# Altium schematic symbol library Custom1.SchLib: 476 symbols (part 4 of 16)
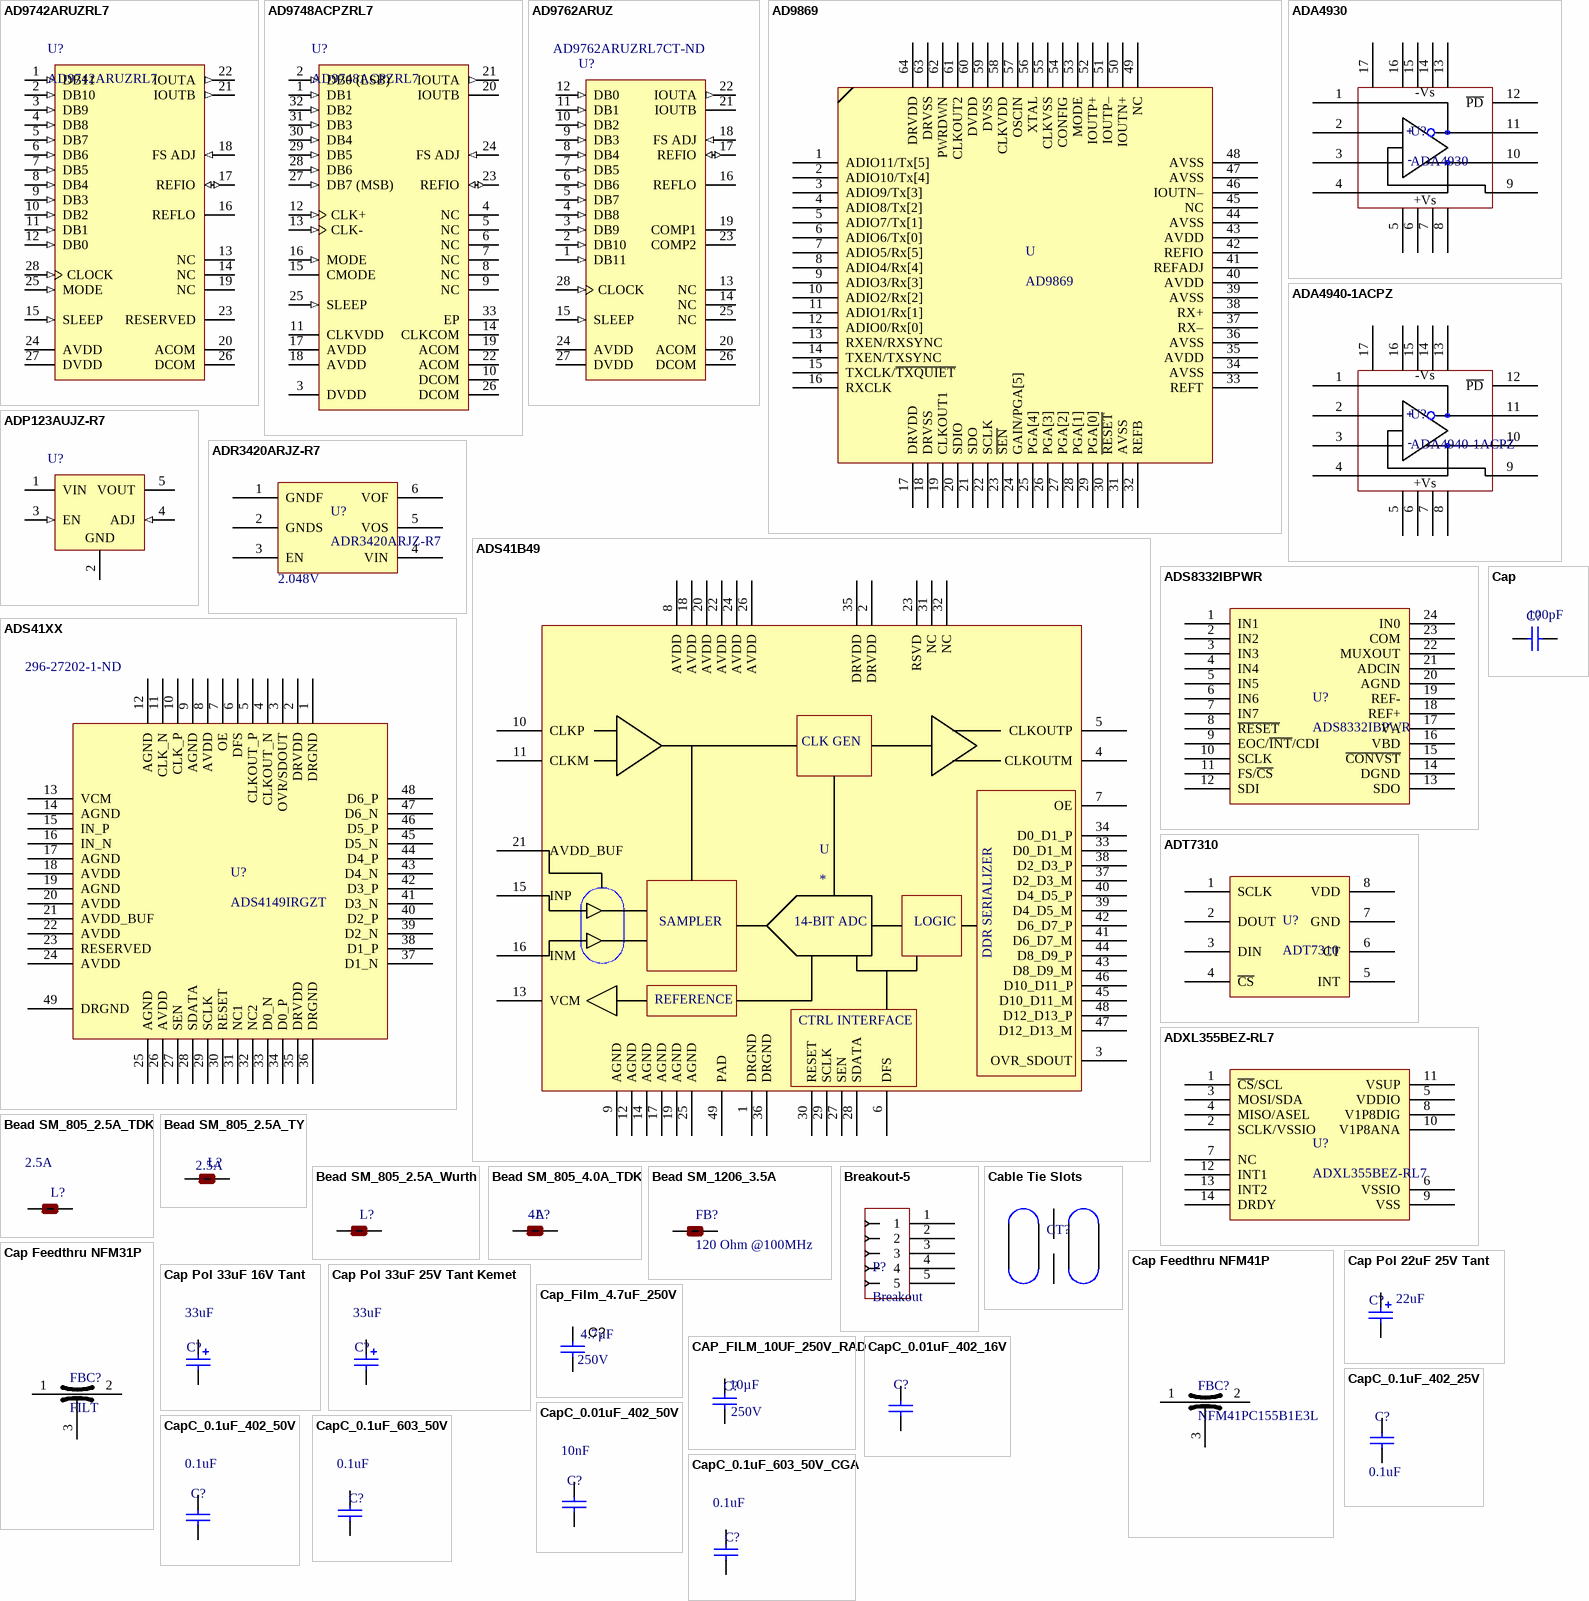
[diagram p28: symbols AD9742ARUZRL7 to CapC_0.1uF_603_50V_CGA]

## Cap Pol 33uF 25V Tant Kemet
designator C?  Capacitance: 33uF  (hidden comment: Cap Pol 33uF 25V Tant Kemet)
33µF Molded Tantalum Polymer Capacitor 25V 2917 (7343 Metric) 40mOhm @ 100kHz; Manufacturer Part Number: T521V336M025ATE040; ESR (Equivalent Series Resistance): 40mR; Tolerance: 20%; ComponentLink1Description: Datasheet; ComponentLink1URL: https://content.kemet.com/datasheets/KEM_T2076_T52X-530.pdf; Supplier 1: Digi-Key; Manufacturer: KEMET; Stock 1: 3766; Pricing 1: 1=2.15000, 10=1.73900, 100=1.32830, 500=1.01200 (USD); RoHS: Yes; Mount: Surface Mount; Case/Package: 2917; Case Code (Metric): 7343; Case Code (Imperial): 2917; Min Operating Temperature: -55°C; Max Operating Temperature: 105°C; Packaging: Cut Tape; Voltage Rating: 25V; Voltage Rating (DC): 25V; Length: 0.287inch; Width: 0.169inch; Height - Seated (Max): 0.079inch; REACH SVHC: No SVHC; ComponentLink2URL: http://www.kemet.com/docfinder?Partnumber=T521&src-supplier=Digi-Key; ComponentLink2Description: http://www.kemet.com/docfinder?Partnumber=T521&src-supplier=Digi-Key; ComponentLink3URL: http://www.farnell.com/datasheets/2032760.pdf?src-supplier=Element14; ComponentLink3Description: http://www.farnell.com/datasheets/2032760.pdf?src-supplier=Element14; Supplier Part Number 1: 399-13115-1-ND
simulation model CAP (Capacitor)
signal-integrity model Cap Pol
footprint TC7343-2917 (Capacitor, SM Tantalum; Body 7.3 x 4.3 mm (LxW typ))
pins: 1, 2
1 alternate drawing of the same symbol

## Cap_Film_4.7uF_250V
designator C?, comment Capacitance: 4.7µF  Voltage Rating - DC: 250V  (hidden comment: CAP FILM 4.7UF 250VDC RADIAL)
Manufacturer: Vishay BC Components; Manufacturer Part Number: BFC237341475; Tolerance: ±10%; Voltage Rating - AC: 160V; Dielectric Material: Polyester, Metallized; Supplier 1: Digi-Key; RoHS: RoHS Compliant; Category: Capacitors; Stock 1: 223; Pricing 1: 1=8.9, 10=7.91, 50=6.9212, 100=6.328, 250=5.73476, 500=5.43812, 1000=5.04263, 2500=4.94375, 5000=4.9042 (USD); Packaging: Bulk; ESR (Equivalent Series Resistance): -; Operating Temperature: -55°C ~ 105°C; Mounting Type: Through Hole; Package / Case: Radial; Size / Dimension: 1.220" L x 0.591" W (31.00mm x 15.00mm); Height - Seated (Max): 1.102" (28.00mm); Termination: PC Pins; Lead Spacing: 1.083" (27.50mm); Applications: General Purpose; Features: -; ComponentLink1URL: http://media.digikey.com/pdf/Data%20Sheets/BC%20Components%20PDFs/MKT373_Series.pdf; ComponentLink1Description: http://media.digikey.com/pdf/Data%20Sheets/BC%20Components%20PDFs/MKT373_Series.pdf; Supplier Part Number 1: BC1787-ND
footprint Capacitor Large Radial
footprint C0805 (Chip Capacitor; Body 2.0 x 1.2 mm (LxW typ))
footprint 0603 (SMT; Body 1.6 x 0.8 mm (LxW typ))
footprint Cap Radial 1.22" x .591"
pins: 1, 2

## CAP_FILM_10UF_250V_RAD
designator C?, comment Capacitance: 10µF  Voltage Rating - DC: 250V  (hidden comment: B32524R3106K)
CAP FILM 10UF 250V RAD; Manufacturer: EPCOS Inc; Tolerance: ±10%; Voltage Rating - AC: 160V; Dielectric Material: Polyester, Polyethylene Terephthalate (PET); Supplier 1: Digi-Key; Manufacturer Part Number: B32524R3106K; RoHS: RoHS Compliant; Category: Capacitors; Stock 1: 2797; Pricing 1: 1=5.27, 10=4.741, 100=3.5819, 500=2.9498, 1000=2.7391, 5000=2.63375, 10000=2.61268 (USD); Packaging: Bulk; ESR (Equivalent Series Resistance): -; Operating Temperature: -55°C ~ 125°C; Mounting Type: Through Hole; Package / Case: Radial; Size / Dimension: 1.240" L x 0.492" W (31.50mm x 12.50mm); Height - Seated (Max): 0.846" (21.50mm); Termination: PC Pins; Lead Spacing: 1.083" (27.50mm); Applications: General Purpose; Features: -; ComponentLink1URL: http://en.tdk.eu/inf/20/20/db/fc_2009/B32520_529.pdf; ComponentLink1Description: http://en.tdk.eu/inf/20/20/db/fc_2009/B32520_529.pdf; Supplier Part Number 1: 495-4799-ND
simulation model CAP (Capacitor)
signal-integrity model Cap
footprint Cap Radial 1.24" x 0.492" x 0.846
pins: 1, 2

## CapC_0.01uF_402_16V
designator C?, comment 0.01uF_402_16V  (value not drawn)
Capacitor; Manufacturer: KEMET; Manufacturer Part Number: C0402C103K4RACAUTO; Dielectric Material: Ceramic; Capacitance: 10nF; Tolerance: 10%; Voltage Rating: 16V; Dielectric: X7R; Supplier 1: Digi-Key; Stock 1: 101370; Pricing 1: 1 = 0.11000, 10 = 0.08000, 100 = 0.03560, 500 = 0.02544, 1000 = 0.01999, 2500 = 0.01817, 5000 = 0.01672 (USD); RoHS: Yes; Mount: Surface Mount; Case/Package: 0402; Case Code (Metric): 1005; Case Code (Imperial): 0402; Contact Plating: Tin; Min Operating Temperature: -55°C; Max Operating Temperature: 125°C; Package Quantity: 1; Packaging: Tape and Reel; Voltage Rating (DC): 16V; Length: 1mm; Height: 0.5mm; Width: 0.02inch; Thickness: 0.022inch; Depth: 0.5mm; Ratings: AEC-Q200; Radiation Hardening: No; REACH SVHC: No SVHC; Supplier Part Number 1: 399-6825-1-ND; ComponentLink1Description: Supplier Link; ComponentLink1URL: https://www.digikey.com/product-detail/en/kemet/C0402C103K4RACAUTO/399-6825-1-ND/3314340; ComponentLink2Description: Datasheet; ComponentLink2URL: https://api.kemet.com/component-edge/download/specsheet/C0402C103K4RACAUTO.pdf
footprint CAPC_0402 (Chip Capacitor, Body 1.0x0.5mm, IPC Medium Density)
pins: 1, 2

## CapC_0.1uF_402_25V
designator C?, comment value 0.1uF  (hidden comment: 0.1uF_402_25V)
Capacitor; Manufacturer: TDK Corporation; Manufacturer Part Number: CGJ2B3X7R1E104K050BB; Capacitance: 0.1µF; Voltage - Rated: 25V; Tolerance: ±10%; Temperature Coefficient: X7R; Supplier 1: Digi-Key; Supplier Part Number 1: 445-13302-1-ND; RoHS: RoHS Compliant; Category: Capacitors; Pricing: 1=0.2, 10=0.136, 100=0.0693, 250=0.05612, 500=0.0495, 1000=0.04208, 5000=0.03548 (USD); Packaging: Cut Tape (CT); Mounting Type: Surface Mount, MLCC; Operating Temperature: -55°C ~ 125°C; Applications: High Reliability; Ratings: -; Package / Case: 0402 (1005 Metric); Size / Dimension: 0.039" L x 0.020" W (1.00mm x 0.50mm); Height - Seated (Max): -; Thickness (Max): 0.020" (0.50mm); Lead Spacing: -; Features: -; Lead Style: -; ComponentLink1URL: https://product.tdk.com/info/en/documents/chara_sheet/CGJ2B3X7R1E104K050BB.pdf; ComponentLink1Description: Data Sheet; Stock: 10000
footprint CAPC_0402 (Chip Capacitor, Body 1.0x0.5mm, IPC Medium Density)
footprint CAPC_0402 (Chip Capacitor, Body 1.0x0.5mm, IPC Medium Density)
pins: 1, 2

## CapC_0.01uF_402_50V
designator C?, comment Capacitance: 10nF  (hidden comment: 0.01uF_402_50V)
10000pF ±10% 50V Ceramic Capacitor X7R 0402 (1005 Metric); Manufacturer: Murata; Manufacturer Part Number: GCM155R71H103KA55D; ComponentLink1Description: Supplier Link; ComponentLink1URL: https://www.digikey.com/products/en?keywords=490-4762-1-ND; ComponentLink2Description: Datasheet; ComponentLink2URL: https://psearch.en.murata.com/capacitor/product/GCM155R71H103KA55%23.pdf; Supplier 1: Digi-Key; Stock 1: 23869696; Pricing 1: 1 = 0.10000, 10 = 0.04200, 100 = 0.01880, 500 = 0.01344, 1000 = 0.01056, 2500 = 0.00960, 5000 = 0.00883 (USD); RoHS: Yes; Mount: Surface Mount; Case/Package: 0402; Case Code (Imperial): 0402; Case Code (Metric): 1005; Min Operating Temperature: -55°C; Max Operating Temperature: 125°C; Tolerance: 10%; Voltage Rating: 50V; Packaging: Tape and Reel; Package Quantity: 1; Dielectric: X7R; Termination: SMD/SMT; Voltage: 50V; Voltage Rating (DC): 50V; Length: 1mm; Height: 0.5mm; Width: 0.02inch; Thickness: 0.022inch; Depth: 0.5mm; Ratings: AEC-Q200; Radiation Hardening: No; REACH SVHC: No SVHC; Lead Free: Lead Free; ComponentLink3URL: https://datasheet.ciiva.com/130/product-130683.pdf?src-supplier=Digi-Key; ComponentLink3Description: https://datasheet.ciiva.com/130/product-130683.pdf?src-supplier=Digi-Key; ComponentLink4URL: https://datasheet.ciiva.com/130/product-130684.pdf?src-supplier=Digi-Key; ComponentLink4Description: https://datasheet.ciiva.com/130/product-130684.pdf?src-supplier=Digi-Key; ComponentLink5URL: https://datasheet.ciiva.com/16199/product-16199584.pdf?src-supplier=Future+Electronics; ComponentLink5Description: https://datasheet.ciiva.com/16199/product-16199584.pdf?src-supplier=Future+Electronics; ComponentLink6URL: https://datasheet.ciiva.com/18100/getdatasheetpartid-27433-18100656.pdf?src-supplier=Verical; ComponentLink6Description: https://datasheet.ciiva.com/18100/getdatasheetpartid-27433-18100656.pdf?src-supplier=Verical; ComponentLink7URL: https://datasheet.ciiva.com/130/product-130682.pdf?src-supplier=Digi-Key; ComponentLink7Description: https://datasheet.ciiva.com/130/product-130682.pdf?src-supplier=Digi-Key; ComponentLink8URL: https://datasheet.ciiva.com/11787/0900766b80ef92d0-11787082.pdf?src-supplier=RSComponents; ComponentLink8Description: https://datasheet.ciiva.com/11787/0900766b80ef92d0-11787082.pdf?src-supplier=RSComponents; ComponentLink9URL: https://datasheet.ciiva.com/2989/product-2989235.pdf?src-supplier=Avnet; ComponentLink9Description: https://datasheet.ciiva.com/2989/product-2989235.pdf?src-supplier=Avnet; ComponentLink10URL: https://datasheet.ciiva.com/16624/product-16624550.pdf?src-supplier=Avnet+Europe; ComponentLink10Description: https://datasheet.ciiva.com/16624/product-16624550.pdf?src-supplier=Avnet+Europe; Supplier Part Number 1: 490-4762-1-ND
footprint CAPC_0402 (Chip Capacitor, Body 1.0x0.5mm, IPC Medium Density)
pins: 1, 2

## CapC_0.1uF_402_50V
designator C?, comment Capacitance: 0.1uF  (hidden comment: 0.1uF_402_50V)
0.1µF ±10% 50V Ceramic Capacitor X7R 0402 (1005 Metric); Manufacturer: Murata; Manufacturer Part Number: GCM155R71H104KE02J; ComponentLink1URL: https://search.murata.co.jp/Ceramy/image/img/A01X/G101/ENG/GCM155R71H104KE02-01.pdf; ComponentLink1Description: Data Sheet; ComponentLink2Description: Supplier Link; ComponentLink2URL: https://www.digikey.com/products/en?keywords=490-14514-1-ND; ComponentLink3Description: Catalog and applications; ComponentLink3URL: https://www.murata.com/~/media/webrenewal/support/library/catalog/products/capacitor/mlcc/c03e.ashx?la=en-us; Supplier 1: Digi-Key; Stock 1: 378282; Pricing 1: 1=0.10000, 10=0.06100, 100=0.02730, 500=0.01952, 1000=0.01533, 2500=0.01394, 5000=0.01282 (USD); RoHS: Yes; Mount: Surface Mount; Case/Package: 0402; Weight: 0.000212oz; Case Code (Imperial): 0402; Case Code (Metric): 1005; Min Operating Temperature: -55°C; Max Operating Temperature: 125°C; Packaging: Tape and Reel; Voltage Rating: 50V; Tolerance: 10%; Dielectric: X7R; Termination: SMD/SMT; Voltage Rating (DC): 50V; Package Quantity: 50000; Length: 0.039inch; Height: 0.5mm; Width: 0.02inch; Thickness: 0.022inch; Ratings: AEC-Q200; Supplier Part Number 1: 490-14514-1-ND
footprint CAPC_0402 (Chip Capacitor, Body 1.0x0.5mm, IPC Medium Density)
footprint CAPC_0402 (Chip Capacitor, Body 1.0x0.5mm, IPC Medium Density)
pins: 1, 2

## CapC_0.1uF_603_50V
designator C?, comment Capacitance: 0.1uF  (hidden comment: 0.1uF_603_50V)
0.1µF ±10% 50V Ceramic Capacitor X7R 0603 (1608 Metric); Manufacturer: TDK; Manufacturer Part Number: CGJ3E2X7R1H104K080AA; Ratings: COTS; ComponentLink1Description: Datasheet; ComponentLink1URL: https://product.tdk.com/info/en/catalog/datasheets/mlcc_highreliability_general_en.pdf; ComponentLink2Description: Supplier Link; ComponentLink2URL: https://www.digikey.com/products/en?keywords=445-8122-1-ND; Supplier 1: Digi-Key; Stock 1: 697211; Pricing 1: 1 = 0.22000, 10 = 0.15300, 100 = 0.07740, 500 = 0.05294, 1000 = 0.04683 (USD); RoHS: Yes; Mount: Surface Mount; Case/Package: 0603; Weight: 7.1E-05oz; Case Code (Imperial): 0603; Case Code (Metric): 1608; Min Operating Temperature: -55°C; Max Operating Temperature: 125°C; Tolerance: 10%; Voltage Rating: 50V; Voltage Rating (DC): 50V; Packaging: Tape and Reel; Package Quantity: 1; Dielectric: X7R; Termination: SMD/SMT; Composition: Ceramic; Length: 1.6mm; Height: 0.8mm; Width: 0.8mm; Thickness: 0.035inch; Depth: 0.8mm; Radiation Hardening: No; Lead Free: Lead Free; Supplier Part Number 1: 445-8122-1-ND
simulation model CAP (Capacitor)
signal-integrity model Cap
footprint CAPC_0603 (Chip Capacitor, Body 1.6x0.8mm, IPC Medium Density)
pins: 1, 2

## CapC_0.1uF_603_50V_CGA
designator C?, comment Capacitance: 0.1uF  (hidden comment: 0.1uF_603_50V)
0.1µF ±10% 50V Ceramic Capacitor X7R 0603 (1608 Metric); Manufacturer: TDK; Manufacturer Part Number: CGA3E2X7R1H104K080AA; ComponentLink1Description: Datasheet; ComponentLink1URL: https://product.tdk.com/info/en/catalog/datasheets/mlcc_highreliability_general_en.pdf; ComponentLink2Description: Supplier Link; ComponentLink2URL: https://www.digikey.com/products/en?keywords=445-8122-1-ND; Supplier 1: Digi-Key; Stock 1: 11656700; Pricing 1: 1 = 0.10000, 10 = 0.07500, 100 = 0.03350, 500 = 0.02390, 1000 = 0.01878 (USD); RoHS: Yes; Mount: Surface Mount; Case/Package: 0603; Weight: 7.1E-05oz; Case Code (Imperial): 0603; Case Code (Metric): 1608; Min Operating Temperature: -55°C; Max Operating Temperature: 125°C; Voltage Rating (DC): 50V; Tolerance: 10%; Packaging: Tape and Reel; Package Quantity: 1; Voltage Rating: 50V; Dielectric: X7R; Termination: SMD/SMT; Composition: Ceramic; Voltage: 50V; Length: 1.6mm; Height: 0.8mm; Width: 0.8mm; Thickness: 0.035inch; Depth: 0.8mm; Ratings: AEC-Q200; Radiation Hardening: No; REACH SVHC: No SVHC; Lead Free: Lead Free; ComponentLink3URL: https://datasheet.ciiva.com/24216/cga3e2x7r1h104k080aa-266291-24216208.pdf?src-supplier=Mouser; ComponentLink3Description: https://datasheet.ciiva.com/24216/cga3e2x7r1h104k080aa-266291-24216208.pdf?src-supplier=Mouser; ComponentLink4URL: https://datasheet.ciiva.com/15192/getdatasheetpartid-715867-15192412.pdf?src-supplier=Verical; ComponentLink4Description: https://datasheet.ciiva.com/15192/getdatasheetpartid-715867-15192412.pdf?src-supplier=Verical; ComponentLink5URL: https://datasheet.ciiva.com/16500/mlccspec-automotive-general-midvoltage-en-16500693.pdf?src-supplier=Future+Electronics; ComponentLink5Description: https://datasheet.ciiva.com/16500/mlccspec-automotive-general-midvoltage-en-16500693.pdf?src-supplier=Future+Electronics; ComponentLink6URL: https://datasheet.ciiva.com/22725/1735392-22725642.pdf?src-supplier=Element14; ComponentLink6Description: https://datasheet.ciiva.com/22725/1735392-22725642.pdf?src-supplier=Element14; ComponentLink7URL: https://datasheet.ciiva.com/23803/1936565-23803084.pdf?src-supplier=Newark; ComponentLink7Description: https://datasheet.ciiva.com/23803/1936565-23803084.pdf?src-supplier=Newark; ComponentLink8URL: https://datasheet.ciiva.com/46385/1735392-46385708.pdf?src-supplier=Element14; ComponentLink8Description: https://datasheet.ciiva.com/46385/1735392-46385708.pdf?src-supplier=Element14; Supplier Part Number 1: 445-5666-1-ND
simulation model CAP (Capacitor)
signal-integrity model Cap
footprint CAPC_0603 (Chip Capacitor, Body 1.6x0.8mm, IPC Medium Density)
pins: 1, 2

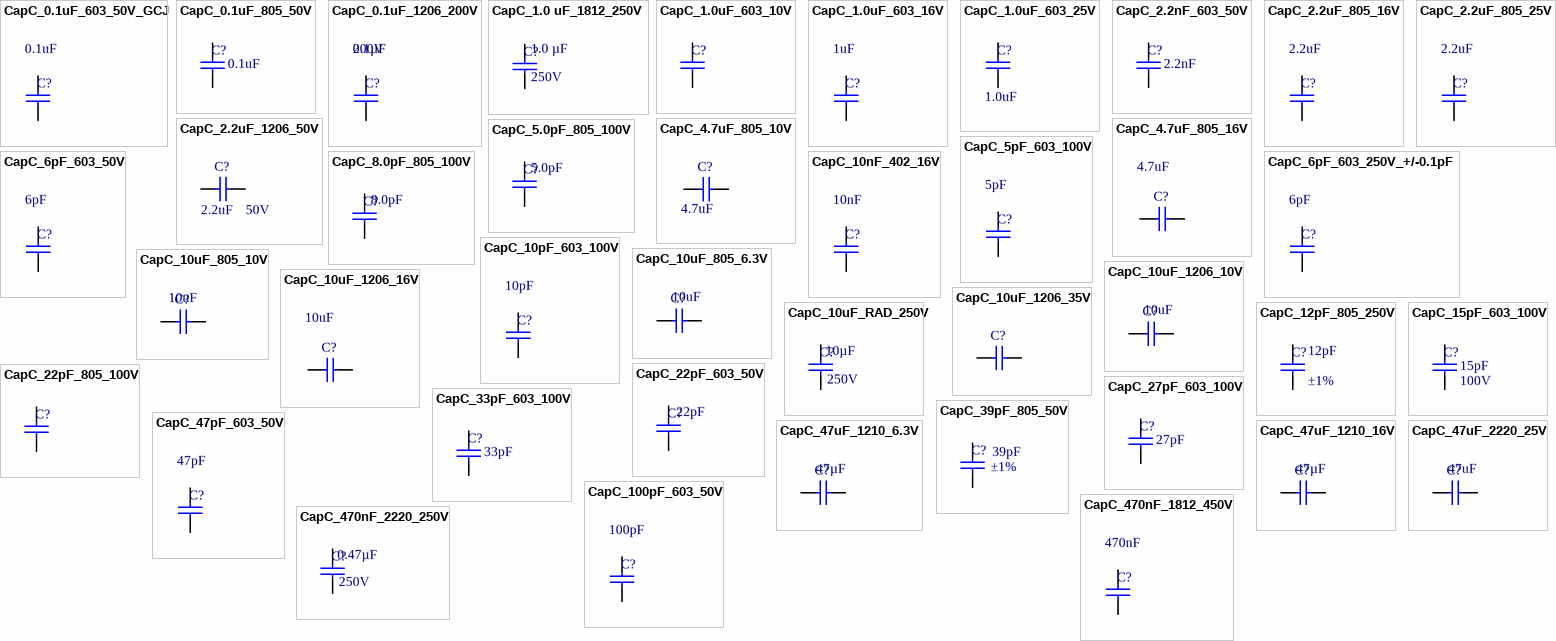
[diagram p11: symbols CapC_0.1uF_603_50V_GCJ to CapC_470nF_2220_250V]

## CapC_0.1uF_603_50V_GCJ
designator C?, comment Capacitance: 0.1uF  (hidden comment: 0.1uF_603_50V)
0.1µF ±10% 50V Ceramic Capacitor X7R 0603 (1608 Metric); Manufacturer: Murata; Manufacturer Part Number: GCJ188R71H104KA12D; ComponentLink1Description: Datasheet; ComponentLink1URL: https://psearch.en.murata.com/capacitor/product/GCJ188R71H104KA12%23.pdf; ComponentLink2Description: Supplier Link; ComponentLink2URL: https://www.digikey.com/products/en?keywords=490-5798-1-ND; Supplier 1: Digi-Key; Stock 1: 2321609; Pricing 1: 1=0.28000, 10=0.19200, 100=0.10890, 500=0.07686, 1000=0.06725 (USD); RoHS: Yes; Mount: Surface Mount; Case/Package: 0603; Case Code (Metric): 1608; Case Code (Imperial): 0603; Min Operating Temperature: -55°C; Max Operating Temperature: 125°C; Tolerance: 10%; Dielectric: X7R; Package Quantity: 1; Voltage Rating: 50V; Packaging: Tape and Reel; Voltage Rating (DC): 50V; Termination: SMD/SMT; Features: Soft Termination; Length: 1.6mm; Height: 0.8mm; Width: 0.031inch; Thickness: 0.035inch; Depth: 0.8mm; Ratings: AEC-Q200; Radiation Hardening: No; Lead Free: Lead Free; Supplier Part Number 1: 490-5798-1-ND
simulation model CAP (Capacitor)
signal-integrity model Cap
footprint CAPC_0603 (Chip Capacitor, Body 1.6x0.8mm, IPC Medium Density)
pins: 1, 2

## CapC_0.1uF_805_50V
designator C?, comment value 0.1uF  (hidden comment: 0.1uF_805_50V)
Capacitor; Manufacturer: Kemet; Manufacturer Part Number: C0805C104M5RACAUTO; Voltage - Rated: 50V; Capacitance: 0.1µF; Tolerance: ±20%; Temperature Coefficient: X7R; Supplier 1: Digi-Key; RoHS: RoHS Compliant; Category: Capacitors; Stock 1: 3931; Pricing 1: 1=0.13, 10=0.092, 50=0.053, 100=0.0437, 250=0.0368, 500=0.03082, 1000=0.0253 (USD); Packaging: Cut Tape (CT); Mounting Type: Surface Mount, MLCC; Operating Temperature: -55°C ~ 125°C; Applications: Automotive; Ratings: AEC-Q200; Package / Case: 0805 (2012 Metric); Size / Dimension: 0.079" L x 0.049" W (2.00mm x 1.25mm); Height - Seated (Max): -; Thickness (Max): 0.035" (0.88mm); Lead Spacing: -; Features: -; Lead Style: -; ComponentLink1URL: http://www.kemet.com/docfinder?Partnumber=C0805C104M5RACAUTO; ComponentLink1Description: http://www.kemet.com/docfinder?Partnumber=C0805C104M5RACAUTO; Supplier Part Number 1: 399-12977-1-ND
simulation model CAP (Capacitor)
signal-integrity model Cap
footprint CAPC_0805 (Chip Capacitor, Body 2.0x1.3mm, IPC Medium Density)
pins: 1, 2

## CapC_0.1uF_1206_200V
designator C?, comment Capacitance: 0.1µF  Voltage - Rated: 200V  (hidden comment: 0.1uF_1206_200V)
Capacitor; Manufacturer: TDK Corporation; Manufacturer Part Number: CGJ5L3X7R2D104K160AA; Tolerance: ±10%; Temperature Coefficient: X7R; Ratings: COTS; Supplier 1: Digi-Key; RoHS: RoHS Compliant; Category: Capacitors; Stock 1: 5456; Pricing 1: 1=1.09, 10=0.91, 100=0.5811, 250=0.48424, 500=0.43582, 1000=0.39709 (USD); Packaging: Cut Tape (CT); Mounting Type: Surface Mount, MLCC; Operating Temperature: -55°C ~ 125°C; Applications: High Reliability; Package / Case: 1206 (3216 Metric); Size / Dimension: 0.126" L x 0.063" W (3.20mm x 1.60mm); Height - Seated (Max): -; Thickness (Max): 0.063" (1.60mm); Lead Spacing: -; Features: -; Lead Style: -; ComponentLink1URL: http://product.tdk.com/capacitor/mlcc/en/documents/mlcc_highreliability_midvoltage_en.pdf; ComponentLink1Description: http://product.tdk.com/capacitor/mlcc/en/documents/mlcc_highreliability_midvoltage_en.pdf; Supplier Part Number 1: 445-9244-1-ND
simulation model CAP (Capacitor)
signal-integrity model Cap
footprint 1206 (Chip Capacitor; Body 3.2 x 1.6 mm (LxW typ))
pins: 1, 2

## CapC_1.0 uF_1812_250V
designator C?, comment Capacitance: 1.0 µF  Voltage - Rated: 250V  (hidden comment: 1uF_1812_250V)
Capacitor; Manufacturer: TDK Corporation; Manufacturer Part Number: CGA8P3X7T2E105K250KE; Tolerance: ±10%; Temperature Coefficient: X7T; Supplier 1: Digi-Key; RoHS: RoHS Compliant; Category: Capacitors; Stock 1: 1936; Pricing 1: 1=2.15, 10=1.763, 100=1.247, 250=1.032 (USD); Packaging: Cut Tape (CT); Mounting Type: Surface Mount, MLCC; Operating Temperature: -55°C ~ 125°C; Applications: Automotive, Boardflex Sensitive; Ratings: AEC-Q200; Package / Case: 1812 (4532 Metric); Size / Dimension: 0.177" L x 0.126" W (4.50mm x 3.20mm); Height - Seated (Max): -; Thickness (Max): 0.110" (2.80mm); Lead Spacing: -; Features: Soft Termination; Lead Style: -; ComponentLink1URL: https://product.tdk.com/info/en/catalog/datasheets/mlcc_automotive_soft_en.pdf; ComponentLink1Description: https://product.tdk.com/info/en/catalog/datasheets/mlcc_automotive_soft_en.pdf; Supplier Part Number 1: 445-8771-1-ND
simulation model CAP (Capacitor)
signal-integrity model Cap
footprint 1812 (Chip Capacitor; Body 4.5 x 3.2 mm (LxW typ))
pins: 1, 2

## CapC_1.0uF_603_10V
designator C?, comment 1.0uF_603_10V  (value not drawn)
Capacitor; Manufacturer: Samsung; Manufacturer Part Number: CL10B105KA8VPNC; Capacitance: 1uF; Voltage Rating: 25V; Tolerance: 10%; Supplier 1: Digi-Key; Stock 1: 580009; Pricing 1: 1=0.24000, 10=0.16400, 100=0.08300, 500=0.05676, 1000=0.05021 (USD); RoHS: Yes; Mount: Surface Mount; Case/Package: 0603; Case Code (Metric): 1608; Case Code (Imperial): 0603; Min Operating Temperature: -55°C; Max Operating Temperature: 125°C; Packaging: Tape and Reel; Features: Soft Termination; Length: 0.063inch; Width: 0.031inch; Thickness: 0.035inch; Ratings: AEC-Q200; Supplier Part Number 1: 1276-6617-1-ND
simulation model CAP (Capacitor)
signal-integrity model Cap
footprint CAPC_0603 (Chip Capacitor, Body 1.6x0.8mm, IPC Medium Density)
pins: 1, 2

## CapC_1.0uF_603_16V
designator C?, comment Capacitance: 1uF  (hidden comment: 1.0uF_603_16V)
1µF ±10% 16V Ceramic Capacitor X7R 0603 (1608 Metric); Manufacturer: Samsung; Manufacturer Part Number: CL10B105KO8VPNC; Supplier 1: Digi-Key; Stock 1: 2457150; Pricing 1: 1 = 0.19000, 10 = 0.13500, 100 = 0.06370, 500 = 0.04466, 1000 = 0.03697 (USD); RoHS: Yes; Mount: Surface Mount; Case/Package: 0603; Case Code (Metric): 1608; Case Code (Imperial): 0603; Min Operating Temperature: -55°C; Max Operating Temperature: 125°C; Tolerance: 10%; Packaging: Tape and Reel; Dielectric: X7R; Voltage Rating: 16V; Features: Soft Termination; Length: 0.063inch; Width: 0.031inch; Thickness: 0.035inch; Depth: 0.8mm; Ratings: AEC-Q200; Lead Free: Lead Free; Supplier Part Number 1: 1276-6613-1-ND; ComponentLink1Description: Supplier Link; ComponentLink1URL: https://www.digikey.com/products/en?keywords=1276-6613-1-ND; ComponentLink2Description: Datasheet; ComponentLink2URL: http://www.samsungsem.com/kr/support/product-search/mlcc/CL10B105KO8VPNC.jsp
simulation model CAP (Capacitor)
signal-integrity model Cap
footprint CAPC_0603 (Chip Capacitor, Body 1.6x0.8mm, IPC Medium Density)
pins: 1, 2

## CapC_1.0uF_603_25V
designator C?, comment Capacitance: 1.0uF  (hidden comment: 1.0uF_603_25V)
1µF ±10% 25V Ceramic Capacitor X7R 0603 (1608 Metric); Manufacturer: Murata; Manufacturer Part Number: GCJ188R71E105KA01D; Supplier 1: Digi-Key; Stock 1: 166271; Pricing 1: 1=0.28000, 10=0.19400, 100=0.11020, 500=0.07780, 1000=0.06807 (USD); RoHS: No; Case/Package: 0603; Lead Free: Lead Free; Supplier Part Number 1: 490-14409-1-ND; ComponentLink1Description: Supplier Link; ComponentLink1URL: https://www.digikey.com/products/en?keywords=490-14409-1-ND; ComponentLink2Description: Datasheet; ComponentLink2URL: https://search.murata.co.jp/Ceramy/image/img/A01X/G101/ENG/GCJ188R71E105KA01-01.pdf; ComponentLink3Description: Catalog; ComponentLink3URL: https://www.murata.com/~/media/webrenewal/support/library/catalog/products/capacitor/mlcc/c03e.ashx?la=en-us
simulation model CAP (Capacitor)
signal-integrity model Cap
footprint CAPC_0603 (Chip Capacitor, Body 1.6x0.8mm, IPC Medium Density)
pins: 1, 2

## CapC_2.2nF_603_50V
designator C?, comment value 2.2nF  (hidden comment: 2.2nF_603_50V)
Capacitor; Manufacturer: Murata Electronics North America; Manufacturer Part Number: GRM188R71H222KA01D; Voltage - Rated: 50V; Capacitance: 2200pF; Tolerance: ±10%; Temperature Coefficient: X7R; Supplier 1: Digi-Key; RoHS: RoHS Compliant; Category: Capacitors; Stock 1: 170713; Pricing 1: 1=0.1, 10=0.036, 50=0.0192, 100=0.0163, 250=0.01336, 500=0.01142, 1000=0.00873 (USD); Packaging: Cut Tape (CT); Mounting Type: Surface Mount, MLCC; Operating Temperature: -55°C ~ 125°C; Applications: General Purpose; Ratings: -; Package / Case: 0603 (1608 Metric); Size / Dimension: 0.063" L x 0.031" W (1.60mm x 0.80mm); Height - Seated (Max): -; Thickness (Max): 0.035" (0.90mm); Lead Spacing: -; Features: -; Lead Style: -; ComponentLink1URL: http://www.murata.com/~/media/webrenewal/support/library/catalog/products/capacitor/mlcc/c02e.ashx; ComponentLink1Description: http://www.murata.com/~/media/webrenewal/support/library/catalog/products/capacitor/mlcc/c02e.ashx; Supplier Part Number 1: 490-1500-1-ND
simulation model CAP (Capacitor)
signal-integrity model Cap
footprint CAPC_0603 (Chip Capacitor, Body 1.6x0.8mm, IPC Medium Density)
pins: 1, 2

## CapC_2.2uF_805_16V
designator C?, comment Capacitance: 2.2uF  (hidden comment: 2.2uF_805_16V)
CAP CER 2.2UF 16V X7R 0805; Manufacturer: Murata; Manufacturer Part Number: GCJ21BR71C225KA13L; Tolerance: 10%; ComponentLink1Description: Supplier Link; ComponentLink1URL: https://www.digikey.com/products/en?keywords=490-5801-1-ND; ComponentLink2Description: Datasheet; ComponentLink2URL: https://psearch.en.murata.com/capacitor/product/GCJ21BR71C225KA13%23.pdf; Supplier 1: Digi-Key; Stock 1: 18374; Pricing 1: 1 = 0.52000, 10 = 0.35900, 100 = 0.21520, 500 = 0.16138, 1000 = 0.13628 (USD); RoHS: Yes; Mount: Surface Mount; Case/Package: 0805; Case Code (Metric): 2012; Case Code (Imperial): 0805; Min Operating Temperature: -55°C; Max Operating Temperature: 125°C; Packaging: Tape and Reel; Package Quantity: 1; Voltage Rating: 16V; Dielectric: X7R; Termination: SMD/SMT; Voltage Rating (DC): 16V; Features: Soft Termination; Length: 2mm; Height: 1.25mm; Width: 0.049inch; Thickness: 0.057inch; Depth: 1.25mm; Ratings: AEC-Q200; Radiation Hardening: No; Lead Free: Lead Free; ComponentLink3URL: https://datasheet.ciiva.com/172/product-172726.pdf?src-supplier=Digi-Key; ComponentLink3Description: https://datasheet.ciiva.com/172/product-172726.pdf?src-supplier=Digi-Key; ComponentLink4URL: https://datasheet.ciiva.com/172/s0717e-172727.pdf?src-supplier=Digi-Key; ComponentLink4Description: https://datasheet.ciiva.com/172/s0717e-172727.pdf?src-supplier=Digi-Key; ComponentLink5URL: https://datasheet.ciiva.com/172/s0717e-172728.pdf?src-supplier=Digi-Key; ComponentLink5Description: https://datasheet.ciiva.com/172/s0717e-172728.pdf?src-supplier=Digi-Key; Supplier Part Number 1: 490-5801-1-ND
simulation model CAP (Capacitor)
signal-integrity model Cap
footprint CAPC_0805 (Chip Capacitor, Body 2.0x1.3mm, IPC Medium Density)
pins: 1, 2

## CapC_2.2uF_805_25V
designator C?, comment Capacitance: 2.2uF  (hidden comment: 2.2uF_805_25V)
CAP CER 2.2UF 25V X7R 0805; Manufacturer: Samsung; Manufacturer Part Number: CL21B225KAFVPNE; Tolerance: 10%; ComponentLink1Description: Supplier Link; ComponentLink1URL: https://www.digikey.com/products/en?keywords=1276-6655-1-ND; ComponentLink2Description: Datasheet; ComponentLink2URL: http://www.samsungsem.com/kr/support/library/product-catalog/__icsFiles/afieldfile/2018/11/28/MLCC.pdf; Supplier 1: Digi-Key; Stock 1: 2260; Pricing 1: 1=0.28000, 10=0.19000, 100=0.10750, 500=0.07586, 1000=0.06638 (USD); RoHS: Yes; Mount: Surface Mount; Case/Package: 0805; Case Code (Metric): 2012; Case Code (Imperial): 0805; Min Operating Temperature: -55°C; Max Operating Temperature: 125°C; Packaging: Tape and Reel; Voltage Rating: 25V; Features: Soft Termination; Length: 0.079inch; Width: 0.049inch; Thickness: 0.053inch; Ratings: AEC-Q200; Supplier Part Number 1: 1276-6655-1-ND
simulation model CAP (Capacitor)
signal-integrity model Cap
footprint CAPC_0805 (Chip Capacitor, Body 2.0x1.3mm, IPC Medium Density)
pins: 1, 2

## CapC_2.2uF_1206_50V
designator C?, comment value 2.2uF  Voltage - Rated: 50V  (hidden comment: 2.2uF_1206_50V)
Capacitor; Manufacturer: Kemet; Manufacturer Part Number: C1206X225K5RACAUTO; Capacitance: 2.2µF; Tolerance: ±10%; Temperature Coefficient: X7R; Supplier 1: Digi-Key; RoHS: RoHS Compliant; Category: Capacitors; Stock 1: 1738; Pricing 1: 1=1.15, 10=0.964, 50=0.779, 100=0.615, 250=0.51252, 500=0.46126, 1000=0.42025 (USD); Packaging: Cut Tape (CT); Mounting Type: Surface Mount, MLCC; Operating Temperature: -55°C ~ 125°C; Applications: Automotive, Boardflex Sensitive; Ratings: AEC-Q200; Package / Case: 1206 (3216 Metric); Size / Dimension: 0.130" L x 0.063" W (3.30mm x 1.60mm); Height - Seated (Max): -; Thickness (Max): 0.071" (1.80mm); Lead Spacing: -; Features: Soft Termination; Lead Style: -; ComponentLink1URL: http://www.kemet.com/docfinder?Partnumber=C1206X225K5RACAUTO; ComponentLink1Description: http://www.kemet.com/docfinder?Partnumber=C1206X225K5RACAUTO; Supplier Part Number 1: 399-7041-1-ND
simulation model CAP (Capacitor)
signal-integrity model Cap
footprint CAPC_1206 (Chip Capacitor, Body 3.2x1.6mm, IPC Medium Density)
pins: 1, 2

## CapC_4.7uF_805_10V
designator C?, comment Capacitance: 4.7uF  (hidden comment: 4.7uF_805_10V)
CAP CER 4.7UF 10V X7R 0805; Manufacturer: KEMET; Manufacturer Part Number: C0805C475K8RACAUTO; ComponentLink1URL: https://product.tdk.com/info/en/documents/chara_sheet/CGJ4J2X7R1A475K125AA.pdf; ComponentLink1Description: Data sheet; Supplier 1: Digi-Key; Stock 1: 9945; Pricing 1: 1 = 0.56000, 10 = 0.39300, 100 = 0.25890, 500 = 0.19178, 1000 = 0.16301 (USD); RoHS: No; ComponentLink2URL: http://www.farnell.com/datasheets/2340025.pdf?src-supplier=Farnell; ComponentLink2Description: http://www.farnell.com/datasheets/2340025.pdf?src-supplier=Farnell; ComponentLink3URL: https://api.kemet.com/component-edge/download/datasheet/C0805C475K8RACAUTO.pdf?src-supplier=Digi-Key; ComponentLink3Description: https://api.kemet.com/component-edge/download/datasheet/C0805C475K8RACAUTO.pdf?src-supplier=Digi-Key; Supplier Part Number 1: 399-15705-1-ND
simulation model CAP (Capacitor)
signal-integrity model Cap
footprint CAPC_0805 (Chip Capacitor, Body 2.0x1.3mm, IPC Medium Density)
pins: 1, 2

## CapC_4.7uF_805_16V
designator C?, comment Capacitance: 4.7uF  (hidden comment: 4.7uF_805_16V)
4.7µF ±10% 16V Ceramic Capacitor X7R 0805 (2012 Metric); Manufacturer: Murata; Manufacturer Part Number: GCJ21BR71C475KA01L; ComponentLink1Description: Datasheet; ComponentLink1URL: https://www.murata.com/~/media/webrenewal/support/library/catalog/products/capacitor/mlcc/c03e.ashx?la=en-us; ComponentLink2Description: Supplier URL; ComponentLink2URL: https://www.digikey.com/products/en?keywords=490-10557-1-ND; Supplier 1: Digi-Key; Stock 1: 302062; Pricing 1: 1 = 0.53000, 10 = 0.36700, 100 = 0.22000, 500 = 0.16498, 1000 = 0.13931 (USD); RoHS: Yes; Mount: Surface Mount; Case/Package: 0805; Weight: 0.000335oz; Case Code (Metric): 2012; Case Code (Imperial): 0805; Min Operating Temperature: -55°C; Max Operating Temperature: 125°C; Packaging: Tape and Reel; Voltage Rating: 16V; Tolerance: 10%; Dielectric: X7R; Termination: SMD/SMT; Voltage Rating (DC): 16V; Package Quantity: 3000; Features: Soft Termination; Length: 0.079inch; Height: 1.25mm; Width: 1.25mm; Thickness: 0.057inch; Ratings: AEC-Q200; Lead Free: Lead Free; ComponentLink3URL: http://www.mouser.com/ds/2/281/c03e-806517.pdf?src-supplier=Mouser; ComponentLink3Description: http://www.mouser.com/ds/2/281/c03e-806517.pdf?src-supplier=Mouser; ComponentLink4URL: http://www.murata.com/~/media/webrenewal/support/library/catalog/products/capacitor/mlcc/c03e.ashx?src-supplier=Digi-Key; ComponentLink4Description: http://www.murata.com/~/media/webrenewal/support/library/catalog/products/capacitor/mlcc/c03e.ashx?src-supplier=Digi-Key; ComponentLink5URL: http://search.murata.co.jp/Ceramy/image/img/A01X/partnumbering_e_02.pdf?src-supplier=Digi-Key; ComponentLink5Description: http://search.murata.co.jp/Ceramy/image/img/A01X/partnumbering_e_02.pdf?src-supplier=Digi-Key; Supplier Part Number 1: 490-10557-1-ND
simulation model CAP (Capacitor)
signal-integrity model Cap
footprint CAPC_0805 (Chip Capacitor, Body 2.0x1.3mm, IPC Medium Density)
pins: 1, 2

## CapC_5.0pF_805_100V
designator C?, comment Capacitance: 5.0pF  (hidden comment: 5.0pF_805_100V)
Capacitor; Manufacturer: Murata Electronics North America; Manufacturer Part Number: GQM2195C2A5R0CB01D; Voltage - Rated: 100V; Tolerance: ±0.25pF; Temperature Coefficient: C0G, NP0; Supplier 1: Digi-Key; Supplier Part Number 1: 490-3591-1-ND; RoHS: RoHS Compliant; Category: Capacitors; Stock: 7333; Pricing: 1=0.71, 10=0.679, 50=0.4052, 100=0.3292, 250=0.27352, 500=0.24818, 1000=0.22793 (USD); Packaging: Cut Tape (CT); Mounting Type: Surface Mount, MLCC; Operating Temperature: -55°C ~ 125°C; Applications: RF, Microwave, High Frequency; Ratings: -; Package / Case: 0805 (2012 Metric); Size / Dimension: 0.079" L x 0.049" W (2.00mm x 1.25mm); Height - Seated (Max): -; Thickness (Max): 0.037" (0.95mm); Lead Spacing: -; Features: High Q, Low Loss; Lead Style: -; ComponentLink1URL: http://www.murata.com/products/catalog/pdf/c02e.pdf; ComponentLink1Description: http://www.murata.com/products/catalog/pdf/c02e.pdf
simulation model CAP (Capacitor)
signal-integrity model Cap
footprint CAPC_0805 (Chip Capacitor, Body 2.0x1.3mm, IPC Medium Density)
pins: 1, 2

## CapC_5pF_603_100V
designator C?, comment Capacitance: 5pF  (hidden comment: 5pF_603_100V)
5pF ±0.25pF 100V Ceramic Capacitor C0G, NP0 0603 (1608 Metric); Manufacturer: TDK; Manufacturer Part Number: CGA3E2NP02A050C080AA; Supplier 1: Digi-Key; Stock 1: 3634; Pricing 1: 1=0.24000, 10=0.16300, 100=0.08260, 500=0.05652, 1000=0.04999 (USD); RoHS: Yes; Mount: Surface Mount; Case/Package: 0603; Case Code (Metric): 1608; Case Code (Imperial): 0603; Min Operating Temperature: -55°C; Max Operating Temperature: 150°C; Package Quantity: 4000; Packaging: Tape and Reel; Voltage Rating: 100V; Features: High Temperature; Length: 0.063inch; Width: 0.031inch; Thickness: 0.035inch; Ratings: AEC-Q200; ComponentLink1Description: Datasheet; ComponentLink1URL: https://product.tdk.com/info/en/catalog/datasheets/mlcc_automotive_hightemp_en.pdf; ComponentLink2Description: Characteristics; ComponentLink2URL: https://product.tdk.com/info/en/documents/chara_sheet/CGA3E2NP02A050C080AA.pdf; ComponentLink3Description: Supplier Link; ComponentLink3URL: https://www.digikey.com/products/en?keywords=445-12373-1-ND; Supplier Part Number 1: 445-12373-1-ND
simulation model CAP (Capacitor)
signal-integrity model Cap
footprint CAPC_0603 (Chip Capacitor, Body 1.6x0.8mm, IPC Medium Density)
pins: 1, 2

## CapC_6pF_603_50V
designator C?, comment Capacitance: 6pF  (hidden comment: 6pF_603_50V)
6pF ±0.5pF 50V Ceramic Capacitor C0G, NP0 0603 (1608 Metric); Manufacturer: TDK; Manufacturer Part Number: CGA3E2C0G1H060D080AA; ComponentLink1Description: Datasheet; ComponentLink1URL: https://product.tdk.com/info/en/catalog/datasheets/mlcc_automotive_hightemp_en.pdf; ComponentLink2Description: Characteristics; ComponentLink2URL: https://product.tdk.com/info/en/documents/chara_sheet/CGA3E2C0G1H060D080AA.pdf; ComponentLink3Description: Supplier Link; ComponentLink3URL: https://www.digikey.com/products/en?keywords=445-5623-1-ND; Supplier 1: Digi-Key; Stock 1: 76845; Pricing 1: 1 = 0.18000, 10 = 0.12800, 100 = 0.06000, 500 = 0.04210, 1000 = 0.03485 (USD); RoHS: Yes; Mount: Surface Mount; Case/Package: 0603; Weight: 7.1E-05oz; Case Code (Metric): 1608; Case Code (Imperial): 0603; Min Operating Temperature: -55°C; Max Operating Temperature: 125°C; Package Quantity: 1; Voltage Rating: 50V; Packaging: Tape and Reel; Voltage Rating (DC): 50V; Dielectric: C0G; Termination: SMD/SMT; Composition: Ceramic; Length: 1.6mm; Height: 0.8mm; Width: 0.031inch; Thickness: 0.035inch; Depth: 0.8mm; Ratings: AEC-Q200; REACH SVHC: No SVHC; Supplier Part Number 1: 445-5623-1-ND
simulation model CAP (Capacitor)
signal-integrity model Cap
footprint CAPC_0603 (Chip Capacitor, Body 1.6x0.8mm, IPC Medium Density)
pins: 1, 2

## CapC_6pF_603_250V_+/-0.1pF
designator C?, comment Capacitance: 6pF  (hidden comment: 6pF_603_250V_+/-0.1pF)
6pF ±0.5pF 50V Ceramic Capacitor C0G, NP0 0603 (1608 Metric); Manufacturer: KEMET; Manufacturer Part Number: CBR06C609BAGAC; Voltage Rating: 250V; ComponentLink1Description: Datasheet; ComponentLink1URL: https://content.kemet.com/datasheets/KEM_C1030_CBR_SMD.pdf; ComponentLink3Description: Supplier Link; ComponentLink3URL: https://www.digikey.com/products/en?keywords=399-8734-1-ND; Supplier 1: Digi-Key; Stock 1: 14602; Pricing 1: 1 = 0.71000, 10 = 0.49900, 100 = 0.32850, 500 = 0.24334, 1000 = 0.20684 (USD); RoHS: Yes; Mount: Surface Mount; Case/Package: 0603; Weight: 7.1E-05oz; Case Code (Metric): 1608; Case Code (Imperial): 0603; Min Operating Temperature: -55°C; Max Operating Temperature: 125°C; Package Quantity: 1; Packaging: Tape and Reel; Voltage Rating (DC): 250V; Dielectric: C0G; Termination: SMD/SMT; Length: 0.063inch; Height: 0.8mm; Width: 0.031inch; Thickness: 0.034inch; Supplier Part Number 1: 399-8734-1-ND
simulation model CAP (Capacitor)
signal-integrity model Cap
footprint CAPC_0603 (Chip Capacitor, Body 1.6x0.8mm, IPC Medium Density)
pins: 1, 2

## CapC_8.0pF_805_100V
designator C?, comment Capacitance: 8.0pF  (hidden comment: 8.0pF_805_100V)
Capacitor; Manufacturer: Murata Electronics North America; Manufacturer Part Number: GQM2195C2A8R0CB01D; Voltage - Rated: 100V; Tolerance: ±0.25pF; Temperature Coefficient: C0G, NP0; Supplier 1: Digi-Key; Supplier Part Number 1: 490-3599-1-ND; RoHS: RoHS Compliant; Category: Capacitors; Stock: 8220; Pricing: 1=0.78, 10=0.75, 50=0.448, 100=0.364, 250=0.3024, 500=0.2744, 1000=0.252 (USD); Packaging: Cut Tape (CT); Mounting Type: Surface Mount, MLCC; Operating Temperature: -55°C ~ 125°C; Applications: RF, Microwave, High Frequency; Ratings: -; Package / Case: 0805 (2012 Metric); Size / Dimension: 0.079" L x 0.049" W (2.00mm x 1.25mm); Height - Seated (Max): -; Thickness (Max): 0.037" (0.95mm); Lead Spacing: -; Features: High Q, Low Loss; Lead Style: -; ComponentLink1URL: http://www.murata.com/products/catalog/pdf/c02e.pdf; ComponentLink1Description: http://www.murata.com/products/catalog/pdf/c02e.pdf
simulation model CAP (Capacitor)
signal-integrity model Cap
footprint CAPC_0805 (Chip Capacitor, Body 2.0x1.3mm, IPC Medium Density)
pins: 1, 2

## CapC_10nF_402_16V
designator C?, comment Capacitance: 10nF  (hidden comment: 10nF_402_16V)
Capacitor; Manufacturer: KEMET; Manufacturer Part Number: C0402C103K4RACAUTO; Dielectric Material: Ceramic; Tolerance: 10%; Voltage Rating: 16V; Dielectric: X7R; Supplier 1: Digi-Key; Stock 1: 100835; Pricing 1: 1 = 0.11000, 10 = 0.08000, 100 = 0.03560, 500 = 0.02544, 1000 = 0.01999, 2500 = 0.01817, 5000 = 0.01672 (USD); RoHS: Yes; Mount: Surface Mount; Case/Package: 0402; Case Code (Metric): 1005; Case Code (Imperial): 0402; Contact Plating: Tin; Min Operating Temperature: -55°C; Max Operating Temperature: 125°C; Package Quantity: 1; Packaging: Tape and Reel; Voltage Rating (DC): 16V; Length: 1mm; Height: 0.5mm; Width: 0.02inch; Thickness: 0.022inch; Depth: 0.5mm; Ratings: AEC-Q200; Radiation Hardening: No; REACH SVHC: No SVHC; Supplier Part Number 1: 399-6825-1-ND; ComponentLink1Description: Supplier Link; ComponentLink1URL: https://www.digikey.com/products/en?keywords=399-6825-1-ND; ComponentLink2Description: Datasheet; ComponentLink2URL: https://api.kemet.com/component-edge/download/specsheet/C0402C103K4RACAUTO.pdf
footprint RAD-0.3 (Radial Cap, Thru-Hole; 2 Leads; 0.3 in Pin Spacing)
simulation model CAP (Capacitor)
signal-integrity model Cap
footprint 0603 (SMT; Body 1.6 x 0.8 mm (LxW typ))
footprint 0805 (SMT; Body 2.0 x 1.2 mm (LxW typ))
footprint 1206 (Chip Capacitor; Body 3.2 x 1.6 mm (LxW typ))
footprint 0402 (Chip Capacitor; Body 1.0 x 0.5 mm (LxW typ))
footprint CAPC_0402 (Chip Capacitor, Body 1.0x0.5mm, IPC Medium Density)
pins: 1, 2

## CapC_10pF_603_100V
designator C?, comment Capacitance: 10pF  (hidden comment: 10pF_603_100V)
10pF ±0.5pF 100V Ceramic Capacitor C0G, NP0 0603 (1608 Metric); Manufacturer: TDK; Manufacturer Part Number: CGA3E2NP02A100D080AA; Supplier 1: Digi-Key; Stock 1: 12199; Pricing 1: 1=0.23000, 10=0.15500, 100=0.07870, 500=0.05382, 1000=0.04761 (USD); RoHS: Yes; Mount: Surface Mount; Case/Package: 0603; Weight: 7.1E-05oz; Case Code (Metric): 1608; Case Code (Imperial): 0603; Min Operating Temperature: -55°C; Max Operating Temperature: 150°C; Package Quantity: 4000; Packaging: Tape and Reel; Voltage Rating: 100V; Dielectric: C0G; Termination: SMD/SMT; Composition: Ceramic; Voltage Rating (DC): 100V; Features: High Temperature; Length: 0.063inch; Height: 0.8mm; Width: 0.8mm; Thickness: 0.035inch; Ratings: AEC-Q200; Lead Free: Lead Free; ComponentLink1Description: Datasheet; ComponentLink1URL: https://product.tdk.com/info/en/catalog/datasheets/mlcc_automotive_hightemp_en.pdf; ComponentLink2Description: Supplier Link; ComponentLink2URL: https://www.digikey.com/products/en?keywords=445-12346-1-ND; Supplier Part Number 1: 445-12346-1-ND
simulation model CAP (Capacitor)
signal-integrity model Cap
footprint CAPC_0603 (Chip Capacitor, Body 1.6x0.8mm, IPC Medium Density)
pins: 1, 2

## CapC_10uF_805_6.3V
designator C?, comment value 10uF  (hidden comment: 10uF_805_6.3V)
Capacitor; Manufacturer: TDK Corporation; Manufacturer Part Number: CGJ4J1X7R0J106K125AC; Capacitance: 10µF; Voltage - Rated: 6.3V; Tolerance: ±10%; Temperature Coefficient: X7R; Supplier 1: Digi-Key; Supplier Part Number 1: 445-13361-1-ND; RoHS: RoHS Compliant; Category: Capacitors; Pricing: 1=0.7, 10=0.67, 100=0.325, 250=0.27, 500=0.245, 1000=0.225 (USD); Packaging: Cut Tape (CT); Mounting Type: Surface Mount, MLCC; Operating Temperature: -55°C ~ 125°C; Applications: High Reliability; Ratings: -; Package / Case: 0805 (2012 Metric); Size / Dimension: 0.079" L x 0.049" W (2.00mm x 1.25mm); Height - Seated (Max): -; Thickness (Max): 0.057" (1.45mm); Lead Spacing: -; Features: -; Lead Style: -; ComponentLink1URL: https://product.tdk.com/info/en/documents/chara_sheet/CGJ4J1X7R0J106K125AC.pdf; ComponentLink1Description: Data Sheet; Stock: 4260
simulation model CAP (Capacitor)
signal-integrity model Cap
footprint CAPC_0805 (Chip Capacitor, Body 2.0x1.3mm, IPC Medium Density)
pins: 1, 2

## CapC_10uF_805_10V
designator C?, comment Capacitance: 10uF  (hidden comment: 10uF_805_10V)
Capacitor; Manufacturer: Murata; Manufacturer Part Number: GCJ21BR71A106KE01L; Tolerance: 10%; Dielectric: X7R; Voltage Rating: 10V; ComponentLink1Description: Datasheet; ComponentLink1URL: https://www.murata.com/~/media/webrenewal/support/library/catalog/products/capacitor/mlcc/c03e.ashx?la=en-us; ComponentLink2Description: Supplier Link; ComponentLink2URL: https://www.digikey.com/products/en?keywords=490-12646-1-ND; Supplier 1: Digi-Key; Stock 1: 140399; Pricing 1: 1 = 0.70000, 10 = 0.49300, 100 = 0.32440, 500 = 0.24032, 1000 = 0.20428 (USD); RoHS: Yes; Mount: Surface Mount; Case/Package: 0805; Weight: 0.000335oz; Case Code (Metric): 2012; Case Code (Imperial): 0805; Min Operating Temperature: -55°C; Max Operating Temperature: 125°C; Packaging: Tape and Reel; Termination: SMD/SMT; Voltage Rating (DC): 10V; Package Quantity: 3000; Features: Soft Termination; Length: 2mm; Height: 1.25mm; Width: 0.049inch; Thickness: 0.057inch; Depth: 1.25mm; Ratings: AEC-Q200; Supplier Part Number 1: 490-12646-1-ND
simulation model CAP (Capacitor)
signal-integrity model Cap
footprint CAPC_0805 (Chip Capacitor, Body 2.0x1.3mm, IPC Medium Density)
pins: 1, 2

## CapC_10uF_1206_10V
designator C?, comment value 10uF  (hidden comment: 10uF_1206_10V)
Capacitor; Manufacturer: TDK Corporation; Manufacturer Part Number: CGJ5L2X7R1A106K160AA; Capacitance: 10µF; Voltage - Rated: 10V; Tolerance: ±10%; Temperature Coefficient: X7R; Supplier 1: Digi-Key; Supplier Part Number 1: 445-8231-1-ND; RoHS: RoHS Compliant; Category: Capacitors; Stock: 5226; Pricing: 1=1.5, 10=1.233, 100=0.8723, 250=0.72192, 500=0.64672, 1000=0.6016 (USD); Packaging: Cut Tape (CT); Mounting Type: Surface Mount, MLCC; Operating Temperature: -55°C ~ 125°C; Applications: High Reliability; Ratings: -; Package / Case: 1206 (3216 Metric); Size / Dimension: 0.126" L x 0.063" W (3.20mm x 1.60mm); Height - Seated (Max): -; Thickness (Max): 0.071" (1.80mm); Lead Spacing: -; Features: -; Lead Style: -; ComponentLink1URL: https://product.tdk.com/info/en/documents/chara_sheet/CGJ5L2X7R1A106K160AA.pdf; ComponentLink1Description: Data Sheet
simulation model CAP (Capacitor)
signal-integrity model Cap
footprint CAPC_1206 (Chip Capacitor, Body 3.2x1.6mm, IPC Medium Density)
pins: 1, 2

## CapC_10uF_1206_16V
designator C?, comment Capacitance: 10uF  (hidden comment: 10uF_1206_16V)
Capacitor; Manufacturer: Murata; Manufacturer Part Number: GCJ31CR71C106KA15L; Voltage Rating: 16V; Tolerance: 10%; Dielectric: X7R; ComponentLink1URL: https://www.murata.com/~/media/webrenewal/support/library/catalog/products/capacitor/mlcc/c03e.ashx?la=en-us; ComponentLink1Description: Datasheet; ComponentLink2Description: Supplier Link; ComponentLink2URL: https://www.digikey.com/products/en?keywords=490-10558-1-ND; Supplier 1: Digi-Key; Stock 1: 43020; Pricing 1: 1 = 0.79000, 10 = 0.56200, 100 = 0.36990, 500 = 0.27402, 1000 = 0.23292 (USD); RoHS: Yes; Mount: Surface Mount; Case/Package: 1206; Weight: 0.001411oz; Case Code (Metric): 3216; Case Code (Imperial): 1206; Min Operating Temperature: -55°C; Max Operating Temperature: 125°C; Packaging: Tape and Reel; Termination: SMD/SMT; Voltage Rating (DC): 16V; Package Quantity: 2000; Features: Soft Termination; Length: 0.126inch; Height: 1.25mm; Width: 1.6mm; Thickness: 0.075inch; Ratings: AEC-Q200; Supplier Part Number 1: 490-10558-1-ND
simulation model CAP (Capacitor)
signal-integrity model Cap
footprint CAPC_1206 (Chip Capacitor, Body 3.2x1.6mm, IPC Medium Density)
pins: 1, 2

## CapC_10uF_1206_35V
designator C?, comment 10uF_1206_35V  (value not drawn)
10µF ±10% 35V Ceramic Capacitor X7R 1206 (3216 Metric); ComponentLink1URL: https://datasheet.ciiva.com/6258/datasheetpn-c1206x106k4racauto-6258224.pdf?src-supplier=Digi-Key; ComponentLink1Description: Datasheet; ComponentLink2Description: Supplier Link; ComponentLink2URL: https://www.digikey.com/product-detail/en/kemet/C1206X106K4RACAUTO/399-7038-1-ND/3314545
simulation model CAP (Capacitor)
signal-integrity model Cap
footprint CAPC_1206 (Chip Capacitor, Body 3.2x1.6mm, IPC Medium Density)
pins: 1, 2

## CapC_10uF_RAD_250V
designator C?, comment Capacitance: 10µF  Voltage Rating - DC: 250V  (hidden comment: 10uF_RAD_250V)
Capacitor; Manufacturer: EPCOS Inc; Manufacturer Part Number: B32524R3106K; Tolerance: ±10%; Voltage Rating - AC: 160V; Dielectric Material: Polyester, Polyethylene Terephthalate (PET); Supplier 1: Digi-Key; RoHS: RoHS Compliant; Category: Capacitors; Stock 1: 2797; Pricing 1: 1=5.27, 10=4.741, 100=3.5819, 500=2.9498, 1000=2.7391, 5000=2.63375, 10000=2.61268 (USD); Packaging: Bulk; ESR (Equivalent Series Resistance): -; Operating Temperature: -55°C ~ 125°C; Mounting Type: Through Hole; Package / Case: Radial; Size / Dimension: 1.240" L x 0.492" W (31.50mm x 12.50mm); Height - Seated (Max): 0.846" (21.50mm); Termination: PC Pins; Lead Spacing: 1.083" (27.50mm); Applications: General Purpose; Features: -; ComponentLink1URL: http://en.tdk.eu/inf/20/20/db/fc_2009/B32520_529.pdf; ComponentLink1Description: http://en.tdk.eu/inf/20/20/db/fc_2009/B32520_529.pdf; Supplier Part Number 1: 495-4799-ND
simulation model CAP (Capacitor)
signal-integrity model Cap
pins: 1, 2

## CapC_12pF_805_250V
designator C?, comment Tolerance: ±1%  Capacitance: 12pF  (hidden comment: 12pF_805_100V)
Capacitor; Manufacturer: American Technical Ceramics; Manufacturer Part Number: 600F120FT; Voltage - Rated: 250V; Temperature Coefficient: C0G, NP0; Supplier 1: Digi-Key; Supplier Part Number 1: 1284-1018-1-ND; RoHS: RoHS Compliant; Category: Capacitors; Stock: 7572; Pricing: 1=2.28, 10=1.87, 50=1.6416, 100=1.3224, 250=1.0944, 500=0.9804, 1000=0.912 (USD); Packaging: Cut Tape (CT); Mounting Type: Surface Mount, MLCC; Operating Temperature: -55°C ~ 125°C; Applications: RF, Microwave, High Frequency; Ratings: -; Package / Case: 0805 (2012 Metric); Size / Dimension: 0.079" L x 0.049" W (2.00mm x 1.25mm); Height - Seated (Max): -; Thickness (Max): 0.051" (1.30mm); Lead Spacing: -; Features: High Q, Low Loss, Ultra Low ESR, High Voltage; Lead Style: -; ComponentLink1URL: http://www.atceramics.com/UserFiles/600f.pdf; ComponentLink1Description: http://www.atceramics.com/UserFiles/600f.pdf
simulation model CAP (Capacitor)
signal-integrity model Cap
footprint CAPC_0805 (Chip Capacitor, Body 2.0x1.3mm, IPC Medium Density)
pins: 1, 2

## CapC_15pF_603_100V
designator C?, comment value 15pF  Voltage - Rated: 100V  (hidden comment: 15pF_603_100V)
Capacitor; Manufacturer: AVX Corporation; Manufacturer Part Number: 06031A150FAT2A; Tolerance: ±1%; Temperature Coefficient: C0G, NP0; Supplier 1: Digi-Key; RoHS: RoHS Compliant; Category: Capacitors; Stock 1: 30378; Pricing 1: 1=0.48, 10=0.42, 100=0.21, 250=0.168, 500=0.153, 1000=0.138 (USD); Packaging: Cut Tape (CT); Capacitance: 15pF; Mounting Type: Surface Mount, MLCC; Operating Temperature: -55°C ~ 125°C; Applications: General Purpose; Ratings: -; Package / Case: 0603 (1608 Metric); Size / Dimension: 0.063" L x 0.032" W (1.60mm x 0.81mm); Height - Seated (Max): -; Thickness (Max): 0.035" (0.90mm); Lead Spacing: -; Features: -; Lead Style: -; ComponentLink1URL: http://www.avx.com/docs/Catalogs/ccog.pdf; ComponentLink1Description: http://www.avx.com/docs/Catalogs/ccog.pdf; Supplier Part Number 1: 478-6024-1-ND
simulation model CAP (Capacitor)
signal-integrity model Cap
footprint CAPC_0603 (Chip Capacitor, Body 1.6x0.8mm, IPC Medium Density)
pins: 1, 2

## CapC_22pF_603_50V
designator C?, comment Capacitance: 22pF  (hidden comment: 22pF_603_50V)
CAP CER SMD 0603 22PF 5% COG AUT; Manufacturer: KEMET; Manufacturer Part Number: C0603X220J5GACAUTO; Dielectric Material: Ceramic; Voltage Rating: 50V; Dielectric: C0G; ComponentLink1Description: Supplier Link; ComponentLink1URL: https://www.digikey.com/products/en?keywords=399-17608-1-ND; ComponentLink2Description: Datasheet; ComponentLink2URL: https://api.kemet.com/component-edge/download/datasheet/C0603X220J5GACAUTO.pdf; Supplier 1: Digi-Key; Stock 1: 14618; Pricing 1: 1 = 0.45000, 10 = 0.31500, 100 = 0.18890, 500 = 0.14164, 1000 = 0.11961 (USD); RoHS: Yes; Mount: Surface Mount; Case/Package: 0603; Case Code (Metric): 1608; Case Code (Imperial): 0603; Min Operating Temperature: -55°C; Max Operating Temperature: 125°C; Tolerance: 5%; Packaging: Cut Tape; Voltage Rating (DC): 50V; Length: 1.6mm; Height: 0.8mm; Depth: 0.8mm; Radiation Hardening: No; REACH SVHC: No SVHC; Lead Free: Lead Free; Supplier Part Number 1: 399-17608-1-ND
simulation model CAP (Capacitor)
signal-integrity model Cap
footprint CAPC_0603 (Chip Capacitor, Body 1.6x0.8mm, IPC Medium Density)
pins: 1, 2